# Altium schematic symbol library X-Connectors.SCHLIB: 28 symbols
Pins are listed as number, name and electrical type; pins without a type are passive.

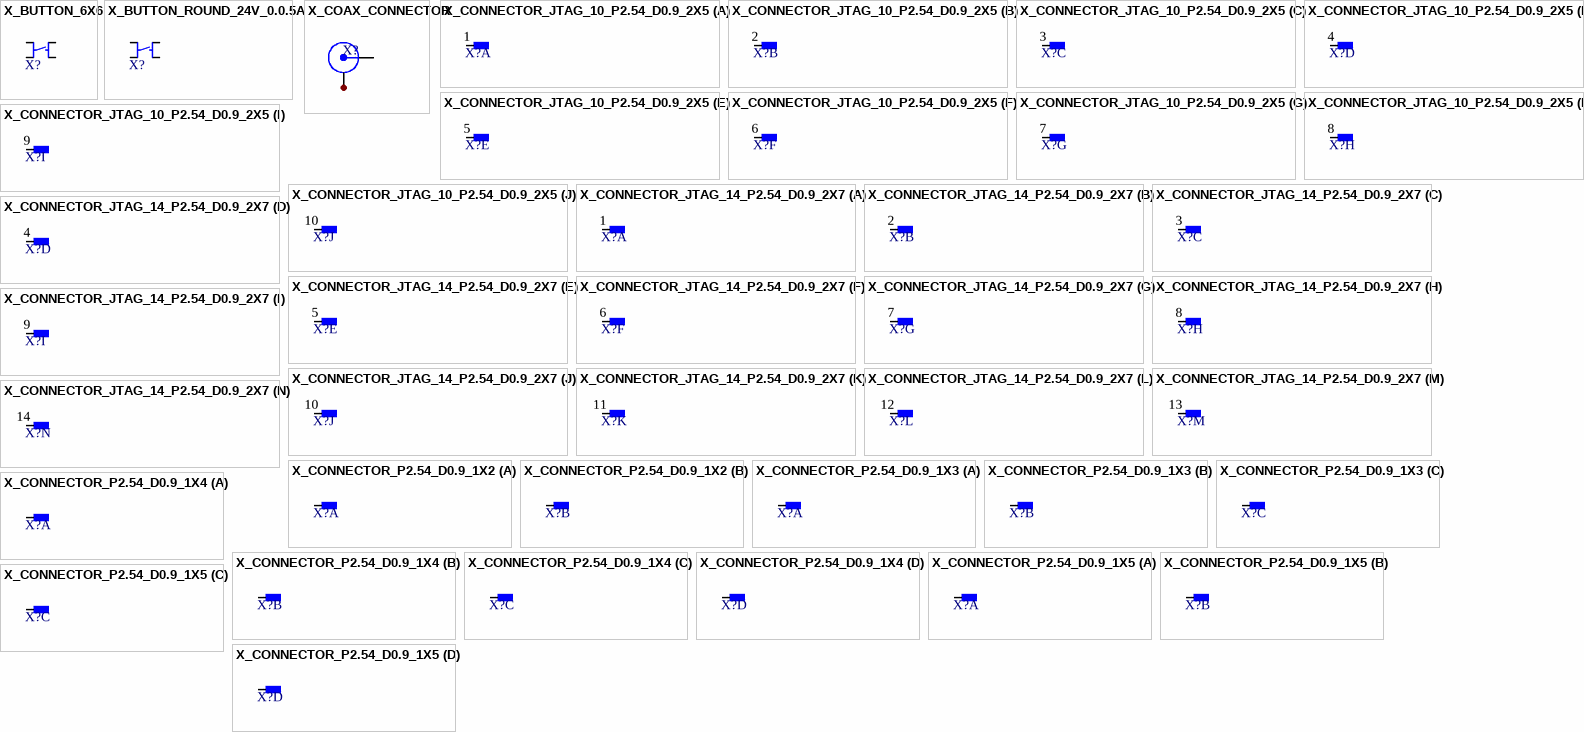
[diagram p0: symbols X_BUTTON_6X6 to X_CONNECTOR_P2.54_D0.9_1X5]

## X_BUTTON_6X6
designator X?  (value not drawn)
6x6mm, Side-operatoed, High-force, and Gold-plated; Supplier - Farnell: 1960939
footprint THT_CON_BUTTON_6X6
pins: 1, 2, 3, 4

## X_BUTTON_ROUND_24V_0.0.5A
designator X?  (value not drawn)
SWITCH TACTILE SPST-NO 0.05A 24V; Supplier - Digikey: JF15CP2C-ND
footprint THT_CON_JF15CP2C
pins: 1, 2, 3, 4

## X_COAX_CONNECTOR
designator X?, comment Coaxial connector  (value not drawn)
Manufacturer: Generic Components; Class II: RF Coaxial; Revision: July-2002: Re-released for DXP Platform.; Publisher: Altium Limited; Class I: Connector
signal-integrity model Connector
footprint THT_CON_SMB_TH_90G
footprint SMA_EDGE_11mm
pins: 1 C, 2 S, 3 S, 4 S, 5 S

## X_CONNECTOR_JTAG_10_P2.54_D0.9_2X5
designator X?  (value not drawn)
10-pin JTAG Pitch 2.54, Diameter 0.9mm, 2 row, 5 columns; Type: Pitch 2.54, Diameter 0.9mm, 2 row, 5 columns
footprint THT_JTAG_HDR2X5RC
part A pins: 1
part B pins: 2
part C pins: 3
part D pins: 4
part E pins: 5
part F pins: 6
part G pins: 7
part H pins: 8
part I pins: 9
part J pins: 10

## X_CONNECTOR_JTAG_14_P2.54_D0.9_2X7
designator X?  (value not drawn)
14-pin JTAG Pitch 2.54, Diameter 0.9mm, 2 row, 7 columns; Type: Pitch 2.54, Diameter 0.9mm, 2 row, 7 columns
footprint THT_CON_JTAG_P2.54_D0.9_2X7
part A pins: 1
part B pins: 2
part C pins: 3
part D pins: 4
part E pins: 5
part F pins: 6
part G pins: 7
part H pins: 8
part I pins: 9
part J pins: 10
part K pins: 11
part L pins: 12
part M pins: 13
part N pins: 14

## X_CONNECTOR_P2.54_D0.9_1X2
designator X?  (value not drawn)
Pitch 2.54, Diameter 0.9mm, 1 row, 2 columns; Type: Pitch 2.54, Diameter 0.9mm, 1 row, 2 columns
footprint THT_CON_P2.54_D0.9_1X2
part A pins: 1
part B pins: 2

## X_CONNECTOR_P2.54_D0.9_1X3
designator X?  (value not drawn)
Pitch 2.54, Diameter 0.9mm, 1 row, 3 columns; Type: Pitch 2.54, Diameter 0.9mm, 1 row, 3 columns
footprint THT_CON_P2.54_D0.9_1X3
part A pins: 1
part B pins: 2
part C pins: 3

## X_CONNECTOR_P2.54_D0.9_1X4
designator X?  (value not drawn)
Pitch 2.54, Diameter 0.9mm, 1 row, 4 columns; Type: Pitch 2.54, Diameter 0.9mm, 1 row, 3 columns
footprint THT_CON_P2.54_D0.9_1X4
part A pins: 1
part B pins: 2
part C pins: 3
part D pins: 4

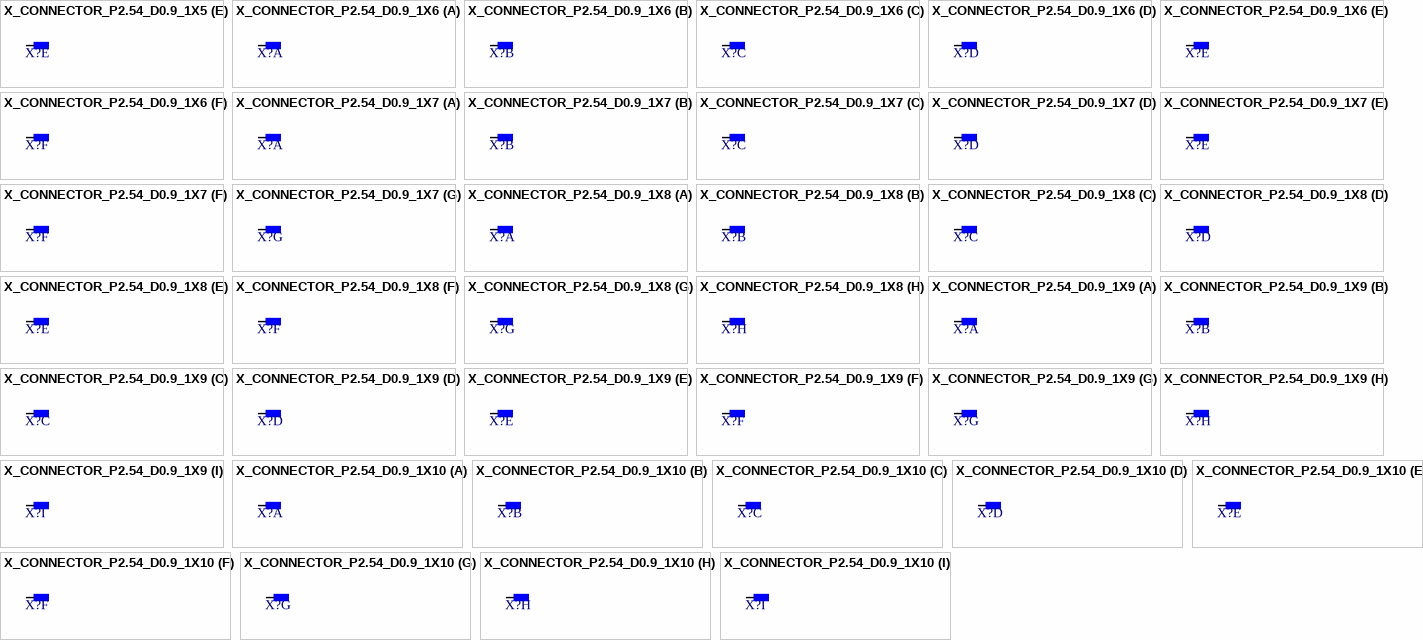
[diagram p1: symbols X_CONNECTOR_P2.54_D0.9_1X5 to X_CONNECTOR_P2.54_D0.9_1X10]

## X_CONNECTOR_P2.54_D0.9_1X5
designator X?  (value not drawn)
Pitch 2.54, Diameter 0.9mm, 1 row, 5 columns; Type: Pitch 2.54, Diameter 0.9mm, 1 row, 3 columns
footprint THT_CON_P2.54_D0.9_1X5
part A pins: 1
part B pins: 2
part C pins: 3
part D pins: 4
part E pins: 5

## X_CONNECTOR_P2.54_D0.9_1X6
designator X?  (value not drawn)
Pitch 2.54, Diameter 0.9mm, 1 row, 6 columns; Type: Pitch 2.54, Diameter 0.9mm, 1 row, 3 columns
footprint THT_CON_P2.54_D0.9_1X6
part A pins: 1
part B pins: 2
part C pins: 3
part D pins: 4
part E pins: 5
part F pins: 6

## X_CONNECTOR_P2.54_D0.9_1X7
designator X?  (value not drawn)
Pitch 2.54, Diameter 0.9mm, 1 row, 7 columns; Type: Pitch 2.54, Diameter 0.9mm, 1 row, 3 columns
footprint THT_CON_P2.54_D0.9_1X7
part A pins: 1
part B pins: 2
part C pins: 3
part D pins: 4
part E pins: 5
part F pins: 6
part G pins: 7

## X_CONNECTOR_P2.54_D0.9_1X8
designator X?  (value not drawn)
Pitch 2.54, Diameter 0.9mm, 1 row, 8 columns; Type: Pitch 2.54, Diameter 0.9mm, 1 row, 3 columns
footprint THT_CON_P2.54_D0.9_1X8
part A pins: 1
part B pins: 2
part C pins: 3
part D pins: 4
part E pins: 5
part F pins: 6
part G pins: 7
part H pins: 8

## X_CONNECTOR_P2.54_D0.9_1X9
designator X?  (value not drawn)
Pitch 2.54, Diameter 0.9mm, 1 row, 9 columns; Type: Pitch 2.54, Diameter 0.9mm, 1 row, 3 columns
footprint THT_CON_P2.54_D0.9_1X9
part A pins: 1
part B pins: 2
part C pins: 3
part D pins: 4
part E pins: 5
part F pins: 6
part G pins: 7
part H pins: 8
part I pins: 9

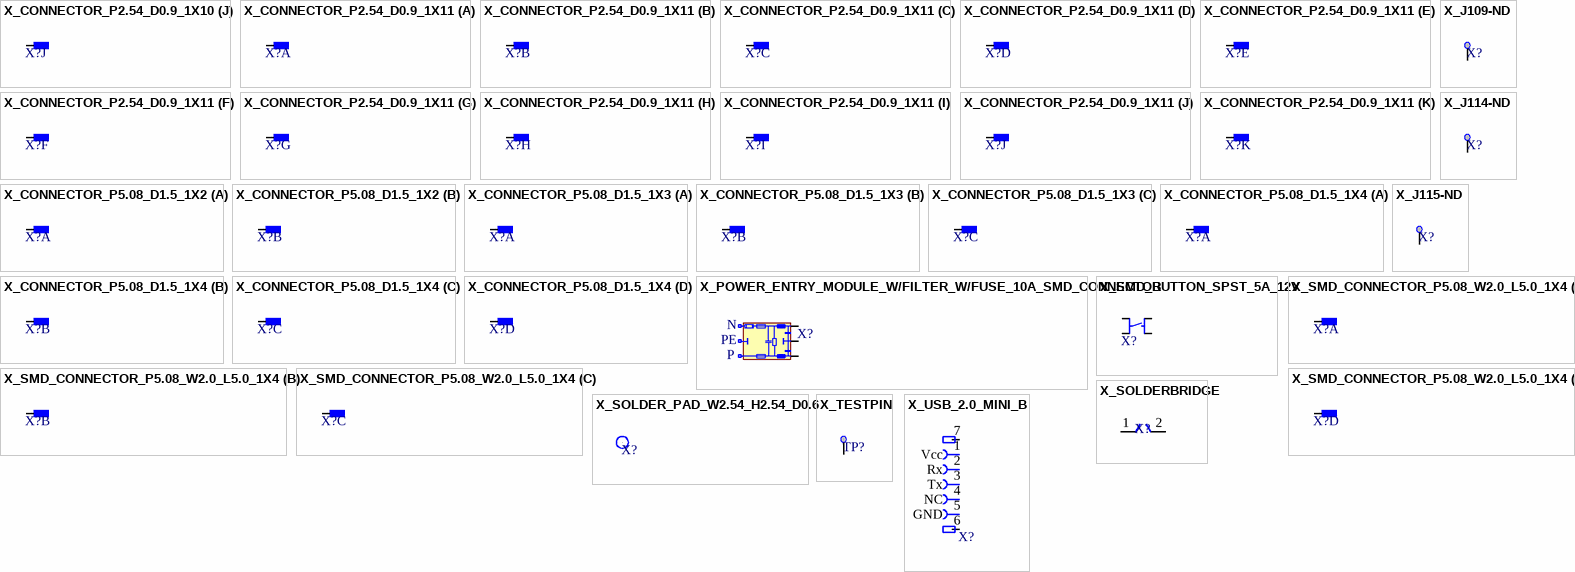
[diagram p2: symbols X_CONNECTOR_P2.54_D0.9_1X10 to X_USB_2.0_MINI_B]

## X_CONNECTOR_P2.54_D0.9_1X10
designator X?  (value not drawn)
Pitch 2.54, Diameter 0.9mm, 1 row, 10 columns; Type: Pitch 2.54, Diameter 0.9mm, 1 row, 3 columns
footprint THT_CON_P2.54_D0.9_1X10
part A pins: 1
part B pins: 2
part C pins: 3
part D pins: 4
part E pins: 5
part F pins: 6
part G pins: 7
part H pins: 8
part I pins: 9
part J pins: 10

## X_CONNECTOR_P2.54_D0.9_1X11
designator X?  (value not drawn)
Pitch 2.54, Diameter 0.9mm, 1 row, 11 columns; Type: Pitch 2.54, Diameter 0.9mm, 1 row, 3 columns
footprint THT_CON_P2.54_D0.9_1X11
part A pins: 1
part B pins: 2
part C pins: 3
part D pins: 4
part E pins: 5
part F pins: 6
part G pins: 7
part H pins: 8
part I pins: 9
part J pins: 10
part K pins: 11

## X_CONNECTOR_P5.08_D1.5_1X2
designator X?  (value not drawn)
Pitch 5.08, Diameter 1.5mm, 1 row, 2 columns; Type: Pitch 2.54, Diameter 0.9mm, 1 row, 2 columns
footprint THT_CON_P5.08_D1.5_1X2
part A pins: 1
part B pins: 2

## X_CONNECTOR_P5.08_D1.5_1X3
designator X?  (value not drawn)
Pitch 5.08, Diameter 1.5mm, 1 row, 3 columns; Type: Pitch 5.08, Diameter 1.5mm, 1 row, 3 columns
footprint THT_CON_P5.08_D1.5_1X3
part A pins: 1
part B pins: 2
part C pins: 3

## X_CONNECTOR_P5.08_D1.5_1X4
designator X?  (value not drawn)
footprint THT_CON_P5.08_D1.5_1X4
part A pins: 1
part B pins: 2
part C pins: 3
part D pins: 4

## X_J109-ND
designator X?, comment J109-ND  (value not drawn)
Horizontal Test Jack Insulated red; Supplier - Digikey: J109-ND
footprint THT_CON_J109-ND
pins: 1 TP

## X_J114-ND
designator X?, comment J114-ND  (value not drawn)
Horizontal Test Jack Insulated black; Supplier - Digikey: J114-ND
footprint THT_CON_J114-ND
pins: 1 TP

## X_J115-ND
designator X?  (value not drawn)
Horizontal Test Jack Insulated blue; Supplier - Digikey: J115-ND
footprint THT_CON_J109-ND
pins: 1 TP

## X_POWER_ENTRY_MODULE_W/FILTER_W/FUSE_10A_SMD_CONNECTOR
designator X?  (value not drawn)
MOD POWER ENTRY INLET WITH FUSE 10A; Supplier - Digikey: 817-1489-ND
footprint SMD_CON_P5.08_W2.0_L5.0_1X3
pins: 1, 2, 3
text: N; PE; P

## X_SMD_BUTTON_SPST_5A_12V
designator X?  (value not drawn)
Supplier - Digikey: CKN10416-ND
footprint SMD_BUTTON_PWR70Q2S
pins: 1, 2, 3, 4

## X_SMD_CONNECTOR_P5.08_W2.0_L5.0_1X4
designator X?  (value not drawn)
footprint SMD_CON_P5.08_W2.0_L5.0_1X4
part A pins: 1
part B pins: 2
part C pins: 3
part D pins: 4

## X_SOLDER_PAD_W2.54_H2.54_D0.6
designator X?  (value not drawn)
Placed 2.54 apart, hole size 0.6mm, Designed for soldering/desoldering components frequently for testing purposes
footprint THT_CON_SOLDER_PAD (Designed for soldering/desoldering components frequently for testing purposes)
pins: 1

## X_SOLDERBRIDGE
designator X?, comment Solder Bridge  (value not drawn)
footprint SMD_CON_SOLDERBRIDGE (Solder Bridge)
pins: 1 NC, 2 NC

## X_TESTPIN
designator TP?, comment Test Pin  (value not drawn)
footprint THT_TESTPIN_0_9 (Testpin 0.9mm)
footprint THT_TESTPIN_1_2 (Testpin 1.2mm)
footprint SMD_TESTPOINT_0_5
footprint THT_TESTPIN_0_3
pins: 1 TP

## X_USB_2.0_MINI_B
designator X?  (value not drawn)
USB 2.0 Mini B; Supplier - Digikey: H2961TR-ND
footprint SMD_UX60A-MB-5ST (USB 2.0 Mini B)
pins: 1 Vcc, 2 Rx, 3 Tx, 4 NC, 5 GND, 6, 7